# Altium footprint library RES_SMD.PcbLib: 44 footprints (part 2 of 3)
Each footprint in its own frame and in the unit in brackets; x right, y up, seen from the top. Pads: shape width x height; smd on the part's side, far side on the other; paste and mask are expansions set on the pad; w line width, h text height; cw(c..) or ccw(c..) is an arc to the next point about the centre after c.
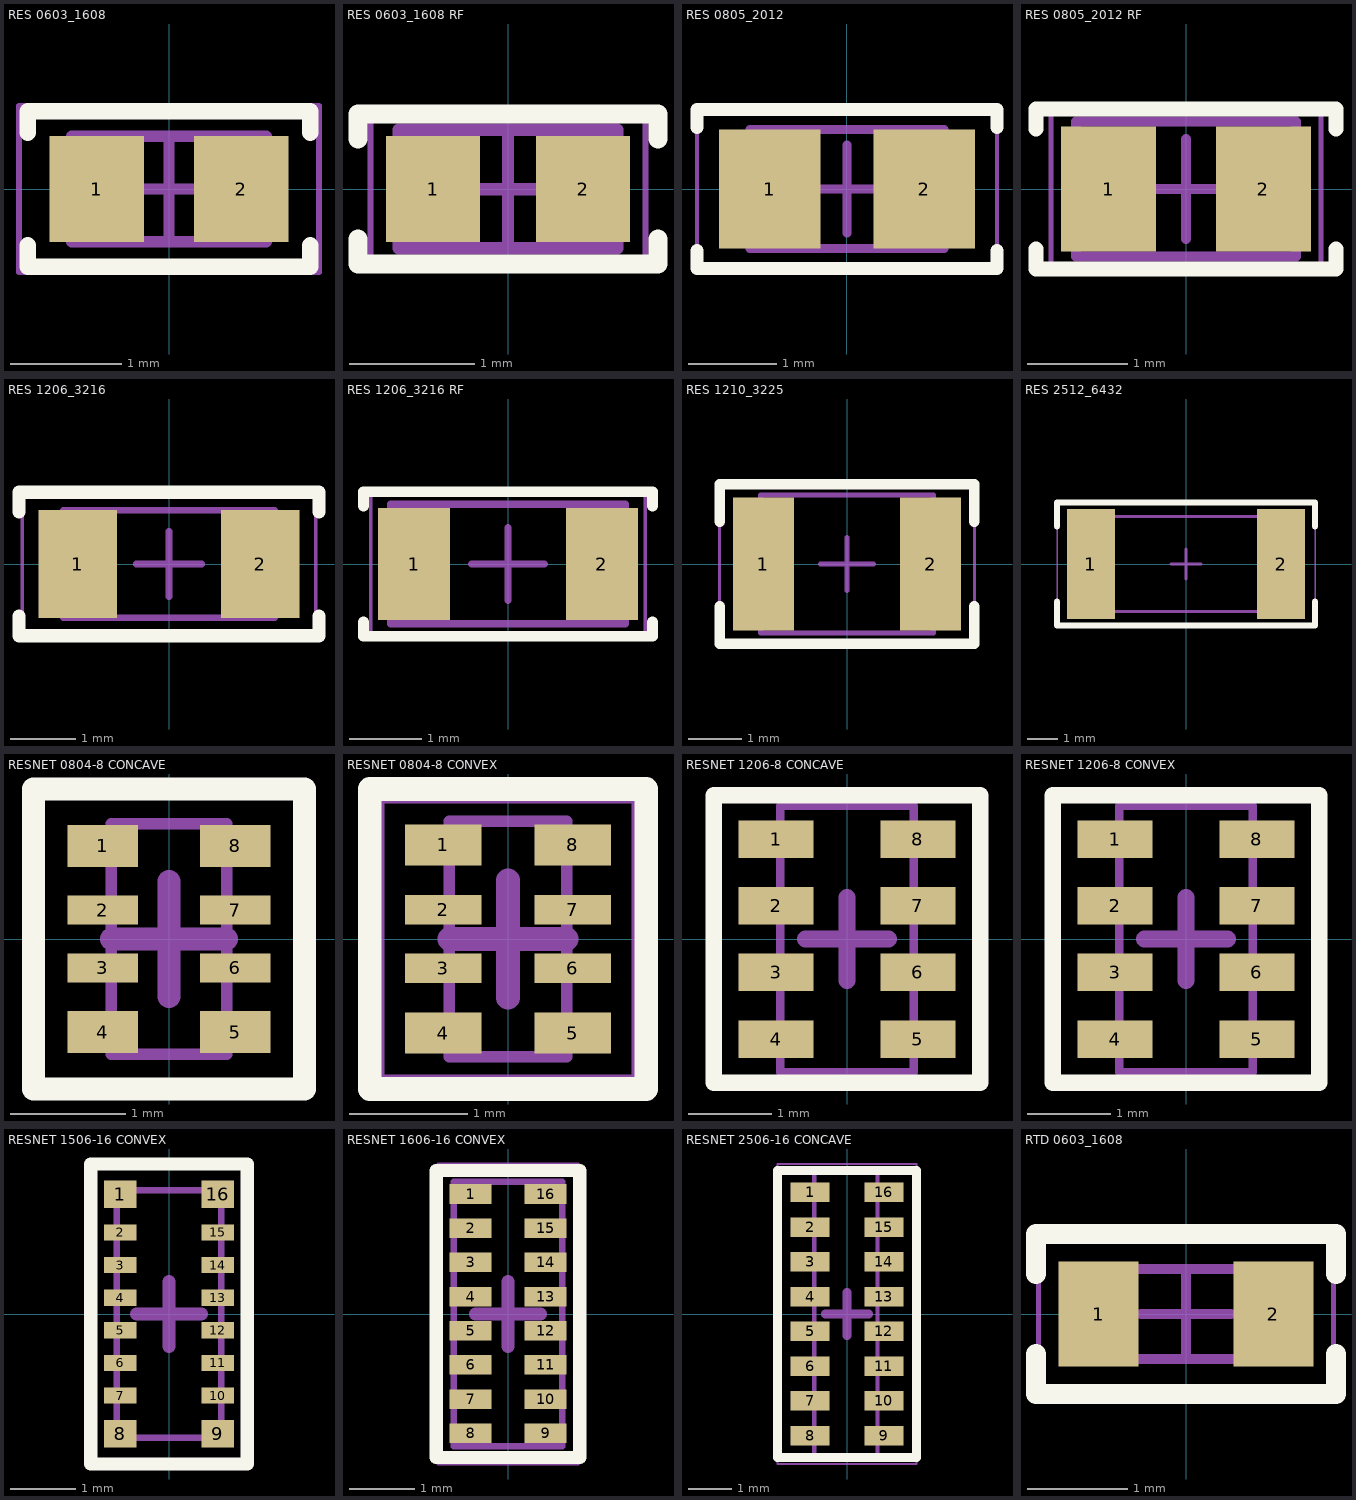
[diagram p1: the footprints below, top view; thin cyan lines are the x and y axes]

## RES 0603_1608 [mm] "Chip Resistor, 2-Leads, Body 1.60x0.80mm, IPC Medium Density"
height 0.45
pads (2):
  rect 0.85x0.95 smd: 1(-0.65,0) 2(0.65,0)
Top Overlay:
  lines w0.15: -1.27,-0.508 -1.27,-0.7 1.27,-0.7 1.27,-0.508 ; -1.27,0.508 -1.27,0.7 1.27,0.7 1.27,0.508
Mechanical 13:
  lines w0.1: -0.875,-0.475 -0.875,0.475 0.875,0.475 0.875,-0.475 -0.875,-0.475
Mechanical 15:
  lines w0.05: -1.35,-0.75 -1.35,0.75 1.35,0.75 1.35,-0.75 -1.35,-0.75
  lines w0.1: -0.475,0 0.475,0 ; 0,-0.475 0,0.475
3D body "0603 resistor.STEP": height 0.45, standoff 0, extent -0.8,-0.4 0.8,0.4

## RES 0603_1608 RF [mm] "Chip Resistor, 2-Leads, Body 1.60x0.80mm, IPC High Density"
height 0.45
pads (2):
  rect 0.75x0.85 smd: 1(-0.6,0) 2(0.6,0)
Top Overlay:
  lines w0.15: -1.2,-0.4 -1.2,-0.6 1.2,-0.6 1.2,-0.4 ; -1.2,0.4 -1.2,0.6 1.2,0.6 1.2,0.4
Mechanical 13:
  lines w0.1: -0.875,-0.475 0.875,-0.475 0.875,0.475 -0.875,0.475 -0.875,-0.475
Mechanical 15:
  lines w0.05: -1.1,-0.6 1.1,-0.6 1.1,0.6 -1.1,0.6 -1.1,-0.6
  lines w0.1: -0.475,0 0.475,0 ; 0,-0.475 0,0.475
3D body "0603 resistor.STEP": height 0.45, standoff 0, extent -0.8,-0.4 0.8,0.4

## RES 0805_2012 [mm] "Chip Resistor, 2-Leads, Body 2.00x1.25mm, IPC Medium Density"
height 0.7
pads (2):
  rect 1.15x1.35 smd: 1(-0.875,0) 2(0.875,0)
Top Overlay:
  lines w0.15: -1.7,-0.7 -1.7,-0.9 1.7,-0.9 1.7,-0.7 ; -1.7,0.7 -1.7,0.9 1.7,0.9 1.7,0.7
Mechanical 13:
  lines w0.1: -1.1,-0.675 -1.1,0.675 1.1,0.675 1.1,-0.675 -1.1,-0.675
Mechanical 15:
  lines w0.05: -1.7,-0.95 -1.7,0.95 1.7,0.95 1.7,-0.95 -1.7,-0.95
  lines w0.1: -0.5,0 0.5,0 ; 0,-0.5 0,0.5
3D body "0805 resistor.STEP": height 0.6, standoff 0, extent -1,-0.625 1,0.625

## RES 0805_2012 RF [mm] "Chip Resistor, 2-Leads, Body 2.00x1.25mm, IPC High Density"
height 0.7
pads (2):
  rect 0.95x1.25 smd: 1(-0.775,0) 2(0.775,0)
Top Overlay:
  lines w0.15: -1.5,-0.6 -1.5,-0.8 1.5,-0.8 1.5,-0.6 ; -1.5,0.6 -1.5,0.8 1.5,0.8 1.5,0.6
Mechanical 13:
  lines w0.1: -1.1,-0.675 -1.1,0.675 1.1,0.675 1.1,-0.675 -1.1,-0.675
Mechanical 15:
  lines w0.05: -1.35,-0.8 -1.35,0.8 1.35,0.8 1.35,-0.8 -1.35,-0.8
  lines w0.1: -0.5,0 0.5,0 ; 0,-0.5 0,0.5
3D body "0805 resistor.STEP": height 0.6, standoff 0, extent -1,-0.625 1,0.625

## RES 1206_3216 [mm] "Chip Resistor, 2-Leads, Body 3.13x1.55mm, IPC Medium Density"
height 0.7
pads (2):
  rect 1.2x1.65 smd: 1(-1.4,0) 2(1.4,0)
Top Overlay:
  lines w0.2: -2.3,-0.8 -2.3,-1.1 2.3,-1.1 2.3,-0.8 ; -2.3,0.8 -2.3,1.1 2.3,1.1 2.3,0.8
Mechanical 13:
  lines w0.1: -1.625,-0.825 1.625,-0.825 1.625,0.825 -1.625,0.825 -1.625,-0.825
Mechanical 15:
  lines w0.05: -2.25,-1.1 2.25,-1.1 2.25,1.1 -2.25,1.1 -2.25,-1.1
  lines w0.1: -0.5,0 0.5,0 ; 0,-0.5 0,0.5
3D body "1206 resistor.STEP": height 0.6, standoff 0, extent -1.6,-0.8 1.6,0.8

## RES 1206_3216 RF [mm] "Chip Resistor, 2-Leads, Body 3.13x1.55mm, IPC High Density"
height 0.7
pads (2):
  rect 1x1.55 smd: 1(-1.3,0) 2(1.3,0)
Top Overlay:
  lines w0.15: -2,-0.8 -2,-1 2,-1 2,-0.8 ; -2,0.8 -2,1 2,1 2,0.8
Mechanical 13:
  lines w0.1: -1.625,-0.825 -1.625,0.825 1.625,0.825 1.625,-0.825 -1.625,-0.825
Mechanical 15:
  lines w0.05: -1.9,-0.95 -1.9,0.95 1.9,0.95 1.9,-0.95 -1.9,-0.95
  lines w0.1: -0.5,0 0.5,0 ; 0,-0.5 0,0.5
3D body "1206 resistor.STEP": height 0.6, standoff 0, extent -1.6,-0.8 1.6,0.8

## RES 1210_3225 [mm] "Chip Resistor, 2-Leads, Body 3.1x2.6mm, IPC Medium Density"
height 0.65
pads (2):
  rect 1.15x2.5 smd: 1(-1.575,0) 2(1.575,0)
Top Overlay:
  lines w0.2: -2.4,-0.8 -2.4,-1.5 2.4,-1.5 2.4,-0.8 ; -2.4,0.8 -2.4,1.5 2.4,1.5 2.4,0.8
Mechanical 13:
  lines w0.1: -1.625,-1.3 -1.625,1.3 1.625,1.3 1.625,-1.3 -1.625,-1.3
Mechanical 15:
  lines w0.05: -2.4,-1.5 -2.4,1.5 2.4,1.5 2.4,-1.5 -2.4,-1.5
  lines w0.1: -0.5,0 0.5,0 ; 0,-0.5 0,0.5
3D body "RES - 1210.step": height 0.7, standoff 0, extent -1.6,-1.25 1.6,1.25

## RES 2512_6432 [mm] "Chip Resistor, 2-Leads, Body 6.30x3.15mm, IPC Medium Density"
height 0.6
pads (2):
  rect 1.6x3.65 smd: 1(-3.175,0) 2(3.175,0)
Top Overlay:
  lines w0.2: -4.3,-1.25 -4.3,-2.05 4.3,-2.05 4.3,-1.25 ; -4.3,1.25 -4.3,2.05 4.3,2.05 4.3,1.25
Mechanical 13:
  lines w0.1: -3.149,-1.575 -3.149,1.575 3.15,1.575 3.15,1.225 3.15,-1.575 -3.149,-1.575
Mechanical 15:
  lines w0.05: -4.3,-2.1 -4.3,2.1 4.3,2.1 4.3,-2.1 -4.3,-2.1
  lines w0.1: -0.5,0 0.5,0 ; 0,-0.5 0,0.5
3D body "RES - 2512.step": height 0.7, standoff 0, extent -3.15,-1.575 3.15,1.575

## RESNET 0804-8 CONCAVE [mm] "4 resistor 2.0x1.0mm, 0.5mm high"
height 0.5
pads (8):
  rect 0.61x0.365 smd: 1(-0.575,0.808) 4(-0.575,-0.808) 5(0.575,-0.808) 8(0.575,0.808)
  rect 0.61x0.25 smd: 2(-0.575,0.25) 3(-0.575,-0.25) 6(0.575,-0.25) 7(0.575,0.25)
Top Overlay:
  lines w0.2: -1.175,-1.3 -1.175,1.3 1.175,1.3 1.175,-1.3 -1.175,-1.3
Mechanical 13:
  lines w0.1: -0.5,-1 -0.5,1 0.5,1 0.5,-1 -0.5,-1
Mechanical 15:
  lines w0.05: -1.1,-1.3 1.1,-1.3 1.1,1.3 -1.1,1.3 -1.1,-1.3
  lines w0.2: -0.5,0 0.5,0 ; 0,-0.5 0,0.5
3D body "RESNET - 0804 Concave.step": height 0.51, standoff 0, extent -0.525,-1.025 0.525,1.025

## RESNET 0804-8 CONVEX [mm] "4 resistor 2.0x1.0mm, 0.65mm high"
height 0.65
pads (8):
  rect 0.65x0.35 smd: 1(-0.55,0.8) 4(-0.55,-0.8) 5(0.55,-0.8) 8(0.55,0.8)
  rect 0.65x0.25 smd: 2(-0.55,0.25) 3(-0.55,-0.25) 6(0.55,-0.25) 7(0.55,0.25)
Top Overlay:
  lines w0.2: -1.175,-1.275 1.175,-1.275 1.175,1.275 -1.175,1.275 -1.175,-1.275
Mechanical 13:
  lines w0.1: -0.5,-1 0.5,-1 0.5,1 -0.5,1 -0.5,-1
Mechanical 15:
  lines w0.05: -1.075,-1.175 1.075,-1.175 1.075,1.175 -1.075,1.175 -1.075,-1.175
  lines w0.2: -0.5,0 0.5,0 ; 0,-0.5 0,0.5
3D body "RESNET - 0804 Convex.step": height 0.56, standoff 0, extent -0.525,-1.025 0.525,1.025

## RESNET 1206-8 CONCAVE [mm] "4 resistor 3.20x1.60mm, 0.7mm high"
height 0.7
pads (8):
  rect 0.9x0.45 smd: 1(-0.85,1.2) 2(-0.85,0.4) 3(-0.85,-0.4) 4(-0.85,-1.2) 5(0.85,-1.2) 6(0.85,-0.4) 7(0.85,0.4) 8(0.85,1.2)
Top Overlay:
  lines w0.2: -1.6,-1.725 -1.6,1.725 1.6,1.725 1.6,-1.725 -1.6,-1.725
Mechanical 13:
  lines w0.1: -0.8,-1.6 -0.8,1.6 0.8,1.6 0.8,-1.6 -0.8,-1.6
Mechanical 15:
  lines w0.05: -1.6,-1.8 -1.6,1.8 1.6,1.8 1.6,-1.8 -1.6,-1.8
  lines w0.2: -0.5,0 0.5,0 ; 0,-0.5 0,0.5
3D body "RESNET - 1206 Concave.step": height 0.6, standoff 0, extent -0.85,-1.65 0.85,1.65

## RESNET 1206-8 CONVEX [mm] "4 resistor 3.20x1.60mm, 0.7mm high"
height 0.7
pads (8):
  rect 0.9x0.45 smd: 1(-0.85,1.2) 2(-0.85,0.4) 3(-0.85,-0.4) 4(-0.85,-1.2) 5(0.85,-1.2) 6(0.85,-0.4) 7(0.85,0.4) 8(0.85,1.2)
Top Overlay:
  lines w0.2: -1.6,-1.725 1.6,-1.725 1.6,1.725 -1.6,1.725 -1.6,-1.725
Mechanical 13:
  lines w0.1: -0.8,-1.6 0.8,-1.6 0.8,1.6 -0.8,1.6 -0.8,-1.6
Mechanical 15:
  lines w0.05: -1.6,-1.8 1.6,-1.8 1.6,1.8 -1.6,1.8 -1.6,-1.8
  lines w0.2: -0.5,0 0.5,0 ; 0,-0.5 0,0.5
3D body "RESNET - 1206 Convex.step": height 0.71, standoff 0, extent -0.838,-1.625 0.837,1.625

## RESNET 1506-16 CONVEX [mm] "Array Chip Resistor, 16 leads, 8 resistors, Body 3.8x1.6mm Height 0.55mm"
height 0.55
pads (16):
  rect 0.5x0.425 smd mask+0.032: 1(-0.75,1.837) 8(-0.75,-1.837) 9(0.75,-1.837) 16(0.75,1.837)
  rect 0.5x0.25 smd mask+0.032: 2(-0.75,1.25) 4(-0.75,0.25) 5(-0.75,-0.25) 6(-0.75,-0.75) 7(-0.75,-1.25) 10(0.75,-1.25) 11(0.75,-0.75) 12(0.75,-0.25) 13(0.75,0.25) 15(0.75,1.25)
  rect 0.5x0.25 smd paste+0 mask+0.032: 3(-0.75,0.75) 14(0.75,0.75)
Top Overlay:
  lines w0.2: -1.2,-2.3 1.2,-2.3 1.2,2.3 -1.2,2.3 -1.2,-2.3
Mechanical 13:
  lines w0.1: -0.8,-1.9 0.8,-1.9 0.8,1.9 -0.8,1.9 -0.8,-1.9
Mechanical 15:
  lines w0.05: -1.2,-2.3 -1.2,2.3 1.2,2.3 1.2,-2.3 -1.2,-2.3
  lines w0.2: -0.5,0 0.5,0 ; 0,-0.5 0,0.5
3D body "RESNET - 1506 Convex.step": height 0.51, standoff 0, extent -0.825,-1.95 0.825,1.95

## RESNET 1606-16 CONVEX [mm] "Array Chip Resistor, 16 leads, 8 resistors"
height 0.55
pads (16):
  rect 0.65x0.3 smd mask+0.032: 1(-0.575,1.84) 2(-0.575,1.316) 4(-0.575,0.267) 5(-0.575,-0.257) 6(-0.575,-0.781) 7(-0.575,-1.306) 8(-0.575,-1.83) 9(0.575,-1.83) 10(0.575,-1.306) 11(0.575,-0.781) 12(0.575,-0.257) 13(0.575,0.267) 15(0.575,1.316) 16(0.575,1.84)
  rect 0.65x0.3 smd paste+0 mask+0.032: 3(-0.575,0.791) 14(0.575,0.791)
Top Overlay:
  lines w0.2: -1.1,-2.2 1.1,-2.2 1.1,2.2 -1.1,2.2 -1.1,-2.2
Mechanical 13:
  lines w0.1: 0.835,2.025 0.835,-2.025 -0.835,-2.025 -0.835,2.025 0.835,2.025 ; 0.835,2.025 0.835,2.025
Mechanical 15:
  lines w0.05: -1.075,-2.3 -1.075,1.495 -1.075,2.3 1.08,2.3 1.08,-2.3 -1.075,-2.3
  lines w0.2: -0.5,0 0.5,0 ; 0,-0.5 0,0.5
3D body "RESNET - 1606 Convex.step": height 0.56, standoff 0, extent -0.837,-2.025 0.838,2.025

## RESNET 2506-16 CONCAVE [mm] "8 resistor 6.40x1.60mm, 0.7mm high"
height 0.7
pads (16):
  rect 0.9x0.45 smd: 1(-0.85,2.8) 2(-0.85,2) 3(-0.85,1.2) 4(-0.85,0.4) 5(-0.85,-0.4) 6(-0.85,-1.2) 7(-0.85,-2) 8(-0.85,-2.8) 9(0.85,-2.8) 10(0.85,-2) 11(0.85,-1.2) 12(0.85,-0.4) 13(0.85,0.4) 14(0.85,1.2) 15(0.85,2) 16(0.85,2.8)
Top Overlay:
  lines w0.2: -1.6,-3.3 -1.6,3.3 1.6,3.3 1.6,-3.3 -1.6,-3.3
Mechanical 13:
  lines w0.1: -0.75,-3.25 0.7,-3.25 0.7,3.25 -0.75,3.25 -0.75,-3.25
Mechanical 15:
  lines w0.05: -1.6,-3.45 -1.6,3.45 1.6,3.45 1.6,-3.45 -1.6,-3.45
  lines w0.2: -0.5,0 0.5,0 ; 0,-0.5 0,0.5
3D body "RESNET - 2506 Concave.step": height 0.6, standoff 0, extent -0.85,-3.25 0.85,3.25

## RTD 0603_1608 [mm] "1 kOhms RTD Platinum ±0.3% ±3850ppm/°C -50°C ~ 150°C, 2-Leads, Body 1.70x0.90mm, IPC Medium Density"
height 0.45
pads (2):
  rect 0.8x1.05 smd: 1(-0.875,0) 2(0.875,0)
Top Overlay:
  lines w0.2: -1.5,-0.4 -1.5,-0.8 1.5,-0.8 1.5,-0.4 ; -1.5,0.4 -1.5,0.8 1.5,0.8 1.5,0.4
Mechanical 13:
  lines w0.1: -0.85,-0.45 0.85,-0.45 0.85,0.45 -0.85,0.45 -0.85,-0.45
Mechanical 15:
  lines w0.05: -1.475,-0.725 1.475,-0.725 1.475,0.725 -1.475,0.725 -1.475,-0.725
  lines w0.1: -0.45,0 0.45,0 ; 0,-0.45 0,0.45
3D body "RTD 0603_1608.step": height 0.45, standoff 0, extent -0.85,-0.45 0.85,0.45